# EAGLE library part STM8S003 (library Deegou_IC)
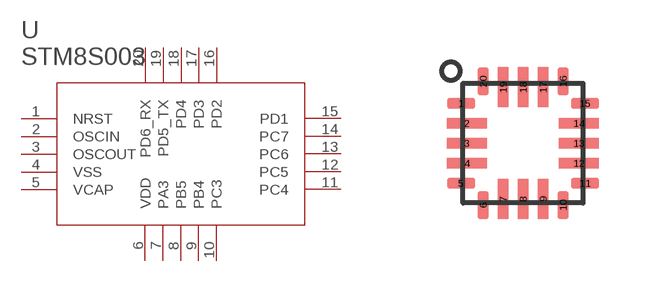
[diagram p17: symbol with the pads of UFQFPN-20; footprint UFQFPN-20]

Designator prefix -

## STM8S003-QFN20  [UFQFPN-20]
1  NRST
2  OSCIN
3  OSCOUT
4  VSS
5  VCAP
6  VDD
7  PA3
8  PB5
9  PB4
10  PC3
11  PC4
12  PC5
13  PC6
14  PC7
15  PD1
16  PD2
17  PD3
18  PD4
19  PD5_TX
20  PD6_RX

## Footprint UFQFPN-20 (pad centres in mm)
smd 0.7 x 0.27: 1 -1.55,1; 5 -1.55,-1; 11 1.55,-1; 15 1.55,1
smd 1 x 0.27: 2 -1.4,0.5; 3 -1.4,0; 4 -1.4,-0.5; 12 1.4,-0.5; 13 1.4,0; 14 1.4,0.5
smd 0.27 x 0.7: 6 -1,-1.55; 10 1,-1.55; 16 1,1.55; 20 -1,1.55
smd 0.27 x 1: 7 -0.5,-1.4; 8 0,-1.4; 9 0.5,-1.392; 17 0.5,1.4; 18 0,1.4; 19 -0.5,1.4